# EAGLE library part DWM1000 (library DWM1000)
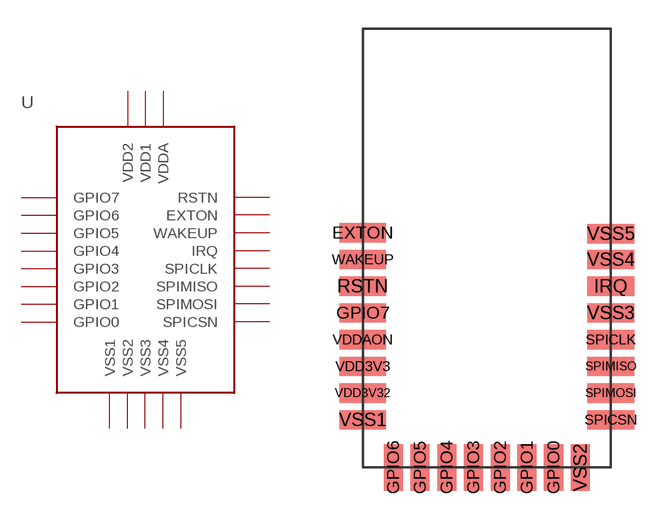
[diagram p0: symbol with the pads of DW1000-PACKAGE; footprint DW1000-PACKAGE]

Designator prefix -

## DWM1000  [DW1000-PACKAGE]
EXTON  EXTON
GPIO0  GPIO0
GPIO1  GPIO1
GPIO2  GPIO2
GPIO3  GPIO3
GPIO4  GPIO4
GPIO5  GPIO5
GPIO6  GPIO6
GPIO7  GPIO7
IRQ  IRQ
RSTN  RSTN
SPICLK  SPICLK
SPICSN  SPICSN
SPIMISO  SPIMISO
SPIMOSI  SPIMOSI
VDD3V3  VDD1  pwr
VDD3V32  VDD2  pwr
VDDAON  VDDA  pwr
VSS1  VSS1  pwr
VSS2  VSS2  pwr
VSS3  VSS3  pwr
VSS4  VSS4  pwr
VSS5  VSS5  pwr
WAKEUP  WAKEUP

## Footprint DW1000-PACKAGE (pad centres in mm)
smd 2.45 x 1: EXTON -6.5,-0.7; GPIO7 -6.5,-4.9; IRQ 6.5,-3.5; RSTN -6.5,-3.5; SPICLK 6.5,-6.3; SPICSN 6.5,-10.5; SPIMISO 6.5,-7.7; SPIMOSI 6.5,-9.1; VDD3V3 -6.5,-7.7; VDD3V32 -6.5,-9.1; VDDAON -6.5,-6.3; VSS1 -6.5,-10.5; VSS3 6.5,-4.9; VSS4 6.5,-2.1; VSS5 6.5,-0.75; WAKEUP -6.5,-2.1
smd 1 x 2.45: GPIO0 3.5,-13; GPIO1 2.1,-13; GPIO2 0.7,-13; GPIO3 -0.7,-13; GPIO4 -2.1,-13; GPIO5 -3.5,-13; GPIO6 -4.9,-13; VSS2 4.9,-13